# Altium schematic symbol library ALTAIR_PD_Amplifiers.SchLib: 12 symbols
Pins are listed as number, name and electrical type; pins without a type are passive.

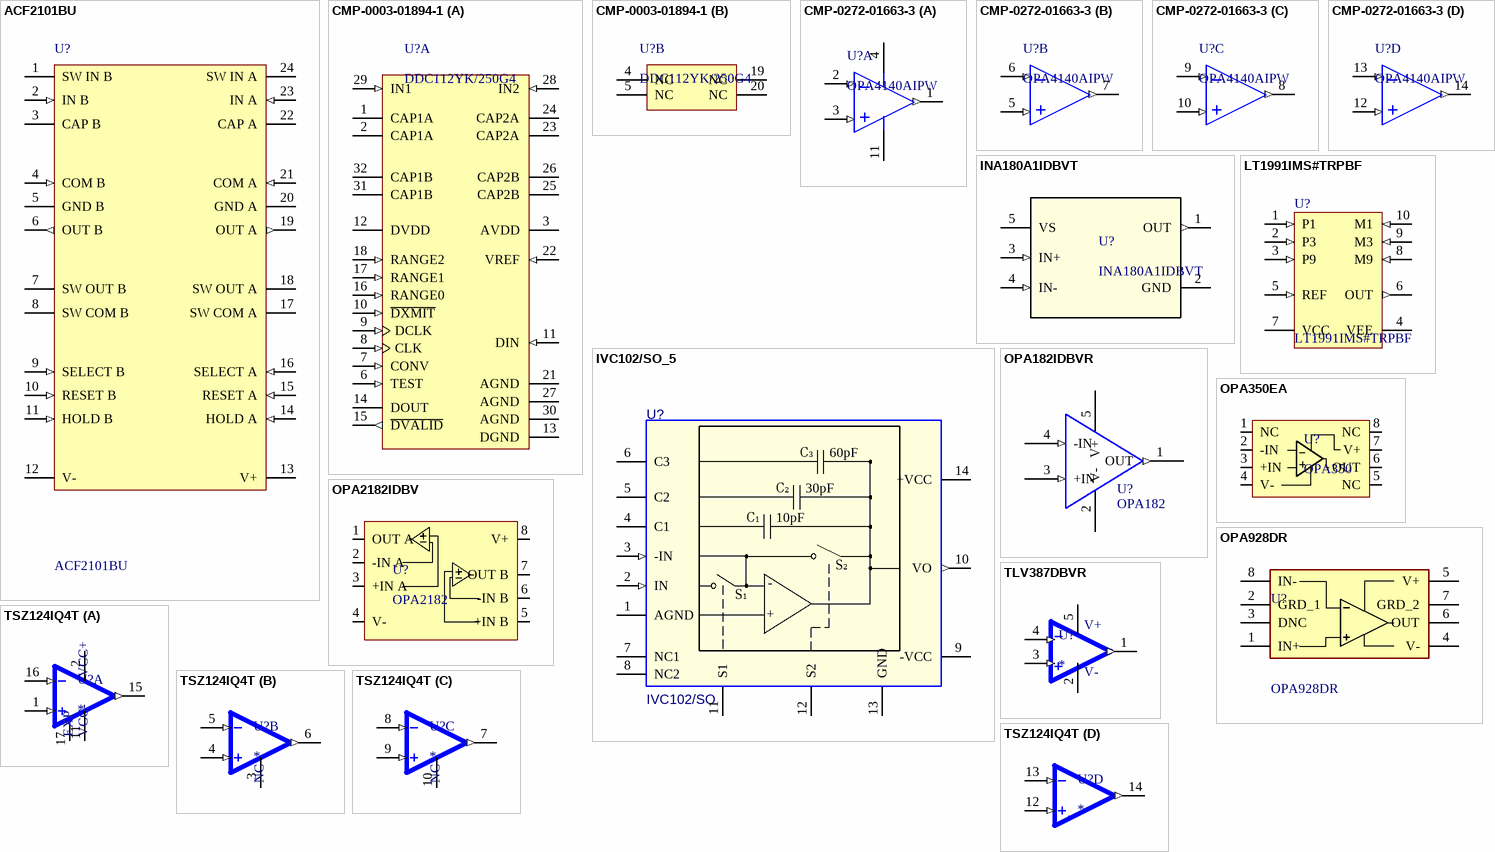
[diagram p0: symbols ACF2101BU to TSZ124IQ4T]

## ACF2101BU
designator U?
Low Noise, Dual Switched Integrator, 14.5 to 36 V, -40 to 125 degC, 24-pin SOIC (DW24), Green (RoHS & no Sb/Br); Manufacturer: Texas Instruments; Iq per channel(Max)(mA): 15; Vio (25C)(Max)(mV): 2; Total Supply Voltage(Max)(+5V is 5, +/-5V is 10): 36; Slew Rate(Typ)(V/us): 3; Rating: Catalog; Packing: TUBE; Sub Family: Precision Amplifier; Offset Drift(Typ)(uV/C): 1; Total Supply Voltage(Min)(+5V is 5, +/-5V is 10): 14.5; Code_JEDEC: MS-013; PackageReference: DW0024A; ComponentLink2Description: Datasheet; Eco-Plan: Green (RoHS & no Sb/Br); ComponentLink3Description: Package Specification; ComponentLink2URL: http://www.ti.com/lit/ds/symlink/acf2101.pdf; DatasheetVersion: SBFS003; ComponentLink1URL: http://www.ti.com/; ComponentLink1Description: Manufacturer URL; ComponentLink3URL: http://www.ti.com/litv/pdf/mpds174a; PartNumber: ACF2101BU; PackageVersion: 4040000-5/G, 01/2011; Number of Channels: 2; PackageDescription: 24-Pin Plastic Small Outline, Body 15.4 x 7.5 mm, Pitch 1.27 mm; GBW(Typ)(MHz): 2; Mounting Technology: Surface Mount
footprint 24-SOIC 7.6MM WIDE LOW DENSITY (SOIC, 24-Leads, Body 15.6x7.6mm, Pitch 1.27mm, IPC Low Density)
pins: 1 SW IN B "B Switch-In", 2 IN B (in) "B In", 3 CAP B "B  Cap", 4 COM B (in) "B Common", 5 GND B (power) "B Ground", 6 OUT B (out) "B Out", 7 SW OUT B "B Switch-Out", 8 SW COM B "B Switch-Common", 9 SELECT B (in) "B Select", 10 RESET B (in) "B Reset", 11 HOLD B (in) "B Hold", 12 V- (power), 13 V+ (power), 14 HOLD A (in) "A Hold", 15 RESET A (in) "A Reset", 16 SELECT A (in) "A Select", 17 SW COM A "A Switch-Common", 18 SW OUT A "A Switch-Out", 19 OUT A (out) "A  Out", 20 GND A (power) "A Ground", 21 COM A (in) "A Common", 22 CAP A "A  Cap", 23 IN A (in) "A In", 24 SW IN A "A Switch-In"

## CMP-0003-01894-1
designator U?, comment DDC112YK/250G4
Dual Current Input 20-Bit ADC, 0 to 70 degC, 32-pin QFP (PJT32), Green (RoHS & no Sb/Br); Manufacturer: Texas Instruments; SubFamily: Current Input ADC; Digital Supply(Max)(V): 5.25; Resolution(Bits): 20; Sample Rate (max)(SPS): 3k; # Input Channels: 2; Architecture: Delta-Sigma; Analog Voltage AV/DD(Min)(V): 4.75; PartNumber: DDC112YK/250G4; Code_JEDEC: MS-026; ComponentLink2URL: http://www.ti.com/general/docs/lit/getliterature.tsp?genericPartNumber=DDC112&fileType=pdf; ComponentLink1Description: Manufacturer URL; PackageVersion: 4203540/A, 11/2001; ComponentLink2Description: Datasheet; Eco-Plan: Green (RoHS & no Sb/Br); ComponentLink3URL: http://www.ti.com/litv/pdf/mpqf112; PackageDescription: 32-Pin Plastic Quad Flatpack, Body 7 x 7 mm, Pitch 0.8 mm; DatasheetVersion: SBAS085B; PackageReference: PJT32; Analog Voltage AV/DD(Max)(V): 5.25; Mounting Technology: Surface Mount; ComponentLink3Description: Package Specification; Digital Supply(Min)(V): 4.75; ComponentLink1URL: http://www.ti.com/
footprint TI-PJT32_M (QFP, 32-Leads, Body 7x7mm, Pitch 0.8mm, IPC Low Density)
footprint TI-PJT32_N (QFP, 32-Leads, Body 7x7mm, Pitch 0.8mm, IPC Medium Density)
footprint TI-PJT32_L (QFP, 32-Leads, Body 7x7mm, Pitch 0.8mm, IPC High Density)
part A pins: 1 CAP1A "External Capacitor for Integrator 1A", 2 CAP1A "External Capacitor for Integrator 1A", 3 AVDD (power) "Analog Supply, +5V Nominal", 6 TEST (in) "Test Control Input. When HIGH, a test charge is applied to the A or B integrators on the next CONV transition.", 7 CONV (in) "Controls which side of the integrator is connected to input. In continuous mode; CONV HIGH side A is integrating, CONV LOW side B is integrating CONV must be synchronized with CLK (see text).", 8 CLK (in) "System Clock Input, 10MHz Nominal", 9 DCLK (in) "Serial Data Clock Input. This input operates the serial I/O shift register.", 10 ~{DXMIT} (in) "Serial Data Transmit Enable Input. When LOW, this input enables the internal serial shift register.", 11 DIN (in) "Serial Digital Input. Used to cascade multiple DDC112s.", 12 DVDD (power) "Digital Supply, +5V Nominal", 13 DGND (power) "Digital Ground", 14 DOUT (hiz) "Serial Data Output, Hi-Z when D\X\M\I\T\ is HIGH", 15 ~{DVALID} (out) "Data Valid Output. A LOW value indicates valid data is available in the serial I/O register.", 16 RANGE0 (in) "Range Control Input 0 (least significant bit)", 17 RANGE1 (in) "Range Control Input 1", 18 RANGE2 (in) "Range Control Input 2. (most significant bit)", 21 AGND (power) "Analog Ground", 22 VREF (in) "External Reference Input, +4.096V Nominal", 23 CAP2A "External Capacitor for Integrator 2A", 24 CAP2A "External Capacitor for Integrator 2A", 25 CAP2B "External Capacitor for Integrator 2B", 26 CAP2B "External Capacitor for Integrator 2B", 27 AGND (power) "Analog Ground", 28 IN2 (in) "Input 2: analog input for Integrators 2A and 2B. The integrator that is active is set by the CONV input.", 29 IN1 (in) "Input 1: analog input for Integrators 1A and 1B. The integrator that is active is set by the CONV input.", 30 AGND (power) "Analog Ground", 31 CAP1B "External Capacitor for Integrator 1B", 32 CAP1B "External Capacitor for Integrator 1B"
part B pins: 4 NC "No Connection", 5 NC "No Connection", 19 NC "No Connection", 20 NC "No Connection"

## CMP-0272-01663-3
designator U?, comment OPA4140AIPW
11 MHz, Single Supply, Low Noise, Precision, Rail-to-Rail Output, JFET Amplifier, 4.5 to 36 V, -40 to 125 degC, 14-pin SOP (PW14), Green (RoHS & no Sb/Br); Manufacturer: Texas Instruments; Number of Channels: 4; Sub Family: High Supply Voltage Amplifier (>=30V), Low Input Bias Current Amp (<=10pA), Low Noise Amp (<=10nV/rtHz), Low Offset Voltage Amplifier (<=500uV), Precision Amplifier; CMRR(Min)(dB): 126; Packing: BULK; Offset Drift(Typ)(uV/C): 0.35; Iq per channel(Max)(mA): 2; Rating: Catalog; Total Supply Voltage(Min)(+5V is 5, +/-5V is 10): 4.5; Total Supply Voltage(Max)(+5V is 5, +/-5V is 10): 36; IIB(Max)(pA): 10; Vio (25C)(Max)(mV): 0.12; GBW(Typ)(MHz): 11; Slew Rate(Typ)(V/us): 20; Code_JEDEC: MO-153; ComponentLink3URL: http://www.ti.com/litv/pdf/mpds360; ComponentLink1URL: http://www.ti.com/; Mounting Technology: Surface Mount; Eco-Plan: Green (RoHS & no Sb/Br); PackageReference: PW0014A; ComponentLink1Description: Manufacturer URL; ComponentLink2Description: Datasheet; PackageVersion: 4040064-3/G, 02/2011; PackageDescription: 14-Pin Plastic Small Outline, Body 5 x 4.4 mm, Pitch 0.65 mm; ComponentLink3Description: Package Specification; DatasheetVersion: SBOS498A; ComponentLink2URL: http://www.ti.com/lit/ds/symlink/opa4140.pdf; PartNumber: OPA4140AIPW
footprint PW0014A_L (SOP, 14-Leads, Body 5.1x4.5mm, Pitch 0.65mm, IPC High Density)
footprint PW0014A_M (SOP, 14-Leads, Body 5.1x4.5mm, Pitch 0.65mm, IPC Low Density)
footprint PW0014A_N (SOP, 14-Leads, Body 5.1x4.5mm, Pitch 0.65mm, IPC Medium Density)
part A pins: 1 OUT A (out), 2 IN A- (in), 3 IN A+ (in), 4 V+ (power), 11 V- (power)
part B pins: 5 IN B+ (in), 6 IN B- (in), 7 OUT B (out)
part C pins: 8 OUT C (out), 9 IN C- (in), 10 IN C+ (in)
part D pins: 12 IN D+ (in), 13 IN D- (in), 14 OUT D (out)

## INA180A1IDBVT
designator U?
26V, 350kHz current sense amplifier 5-SOT-23 -40 to 125; Manufacturer_Name: Texas Instruments; TYPE: TYPE; RefDes: RefDes; Copyright: Copyright (C) 2025 Ultra Librarian. All rights reserved.; Manufacturer_Part_Number: INA180A1IDBVT
footprint DBV0005A_N
pins: 1 OUT (out), 2 GND (power), 3 IN+ (in), 4 IN- (in), 5 VS (power)

## IVC102/SO_5
designator U?, comment IVC102/SO
Precision Switched Integrator Transimpedance Amplifier; Part Reference: U1; Value: IVC102/SO
footprint 14-SOIC 4MM WIDE LOW DENSITY
pins: 1 AGND (power), 2 IN (in), 3 -IN (in), 4 C1, 5 C2, 6 C3, 7 NC1, 8 NC2, 9 -VCC (power), 10 VO (out), 11 S1, 12 S2, 13 GND (power), 14 +VCC (power)
text: C₃; 60pF; C₂; 30pF; C₁; 10pF; S₂; -; S₁; +

## LT1991IMS#TRPBF
designator U?
Programmable Gain Amplifier - Single Channel, Precision, -13 to 14 Gain Selectable Operational Amplifier, 0.56 MHz Typical GBW, 0.12 V/us Typical SR, 2.4 to 40 V, 10-Pin SOP (MS-10), Industial, Pb-Free, Reel; Manufacturer: Linear Technology; Linear Technology Part Number: LT1991; Vos (mV) Guaranteed: 0.05; Channels (#): 1; Is (mA) Typical: 0.1; Vs Max (V): 40; Vos (mV) Typical: 0.015; Vs Min (V): 2.4; GBW (MHz) Typical: 0.56; SR (V/us) Typical: 0.12; ComponentLink1Description: Manufacturer URL; PackageVersion: Rev E; PackageDescription: 10-Lead Plastic MSOP, Body 3 x 3 mm, Pitch 0.5 mm; ComponentLink1URL: http://www.linear.com/; Mounting Technology: Surface Mount; PartNumber: LT1991IMS#TRPBF; Type: SGA; RoHS: Pb-Free; ComponentLink3URL: http://cds.linear.com/docs/en/packaging/MSOP_10_05-08-1661.pdf; ComponentLink3Description: Package Specification; ComponentLink2Description: Datasheet; DatasheetVersion: Rev. H; ComponentLink2URL: http://cds.linear.com/docs/en/datasheet/1991fh.pdf; Packing: Reel; RevisionNote: URLs updated; PackageReference: LT-MS-10
footprint 10-SOP 0.5MM PITCH 3MM WIDTH IPC HIGH DENSITY (SOP, 10-Leads, Body 3x3mm, Pitch 0.50mm, IPC High Density)
pins: 1 P1 (in) "Noninverting Gain-of-1 input. Connects a 450k internal resistor to the op amp’s noninverting input.", 2 P3 (in) "Noninverting Gain-of-3 input. Connects a 150k internal resistor to the op amp’s noninverting input.", 3 P9 (in) "Noninverting Gain-of-9 input. Connects a 50k internal resistor to the op amp’s noninverting input.", 4 VEE (power) "Negative Power Supply. Can be either ground (in single supply applications), or a negative voltage (in split supply applications).", 5 REF (in) "Reference Input. Sets the output level when difference between inputs is zero. Connects a 450k internal resistor to the op amp’s noninverting input.", 6 OUT (out) "Output. VOUT = VREF + 1 ?(VP1 - VM1) + 3 ?(VP3 - VM3) + 9 ?(VP9 - VM9).", 7 VCC (power) "Positive Power Supply. Can be anything from 2.7V to 36V above the VEE voltage.", 8 M9 (in) "Inverting Gain-of-9 input. Connects a 50k internal resistor to the op amp’s inverting input.", 9 M3 (in) "Inverting Gain-of-3 input. Connects a 150k internal resistor to the op amp’s inverting input.", 10 M1 (in) "Inverting Gain-of-1 input. Connects a 450k internal resistor to the op amp’s inverting input."

## OPA182IDBVR
designator U?, comment OPA182
Op amp, Highest-precision, 36-V, 5-MHz, single, low-noise, zero-drift, MUX-friendly amplifier 5-SOT-23 -40 to 125; Manufacturer_Name: Texas Instruments; Manufacturer_Part_Number: OPA182IDBVR; Copyright: Copyright (C) 2025 Ultra Librarian. All rights reserved.; RefDes: RefDes; Type: Type
footprint SOT23-5 NON-IPC TI (SOT-23-5_DBV_TEX)
pins: 1 OUT (out), 2 V- (power), 3 +IN (in), 4 -IN (in), 5 V+ (power)

## OPA350EA
designator U?, comment OPA350
High-Speed Single-Supply Rail-to-Rail Op Amp, MicroAmplifier Series, 8VSSOP; MF: Texas Instruments; MP: OPA350EA/2K5
footprint 8VSSOP LOW DENSITY TI
pins: 1 NC, 2 -IN, 3 +IN, 4 V-, 5 NC, 6 OUT, 7 V+, 8 NC

## OPA928DR
designator U?
Op Amp, 36V, fA input, precision, e-trim; Manufacturer_Name: Texas Instruments; Datasheet Link: https://www.ti.com/lit/ds/symlink/opa928.pdf?HQS=dis-mous-null-mousermode-dsf-pf-null-wwe&ts=1731036524091&ref_url=https%253A%252F%252Fwww.ti.com%252Fgeneral%252Fdocs%252Fsuppproductinfo.tsp%253FdistId%253D26%2526gotoUrl%253Dhttps%253A%252F%252Fwww.ti.com; Height: 1.75mm; Manufacturer_Part_Number: OPA928DR; Mouser Part Number: 595-OPA928DR; Mouser Price/Stock: https://www.mouser.co.uk/ProductDetail/Texas-Instruments/OPA928DR?qs=2wMNvWM5ZX5RgAZJHoeYSw%3D%3D; Arrow Part Number: OPA928DR; Arrow Price/Stock: null?region=nac
footprint 8-SOIC 4MM WIDE MID DENSITY
pins: 1 IN+, 2 GRD_1, 3 DNC, 4 V-, 5 V+, 6 OUT, 7 GRD_2, 8 IN-

## OPA2182IDBV
designator U?, comment OPA2182
Op amp, 2 Channel, Highest-precision, 36-V, 5-MHz, single, low-noise, zero-drift, MUX-friendly amplifier 8VSSOP -40 to 125
pins: 1 OUT A, 2 -IN A, 3 +IN A, 4 V-, 5 +IN B, 6 -IN B, 7 OUT B, 8 V+

## TLV387DBVR
designator U?
Single, ultra-high-precision (10 Î¼V) zero-drift (0.01 Î¼V/Â°C) low-input-bias-current op amp; MF: Texas Instruments; MP: TLV387DBVR; SnapEDA_Link: https://www.snapeda.com/parts/TLV387DBVR/Texas+Instruments/view-part/?ref=snap; Package: None; Value: *; Check_prices: https://www.snapeda.com/parts/TLV387DBVR/Texas+Instruments/view-part/?ref=eda
footprint SOT95P280X145-5N
pins: 1 OUT (out), 2 V- (power), 3 +IN (in), 4 -IN (in), 5 V+ (power)

## TSZ124IQ4T
designator U?
Zero-Drift Amplifier 4 Circuit Rail-to-Rail 16-QFN (3x3); MF: STMicroelectronics; MP: TSZ124IQ4T; SnapEDA_Link: https://www.snapeda.com/parts/TSZ124IQ4T/STMicroelectronics/view-part/?ref=snap; Package: QFN-16 STMicroelectronics; Value: *; Check_prices: https://www.snapeda.com/parts/TSZ124IQ4T/STMicroelectronics/view-part/?ref=eda
footprint AMP_TSZ124IQ4T
part A pins: 1 IN1+ (in), 2 VCC+ (power), 11 VCC- (power), 15 OUT1 (out), 16 IN1- (in), 17 EXP
part B pins: 3 NC_3, 4 IN2+ (in), 5 IN2- (in), 6 OUT2 (out)
part C pins: 7 OUT3 (out), 8 IN3- (in), 9 IN3+ (in), 10 NC_10
part D pins: 12 IN4+ (in), 13 IN4- (in), 14 OUT4 (out)
part B text: NC
part C text: NC